# Altium footprint library SFECF10M7.PcbLib: 1 footprints
Each footprint in its own frame and in the unit in brackets; x right, y up, seen from the top. Pads: shape width x height; smd on the part's side, far side on the other; paste and mask are expansions set on the pad; w line width, h text height; cw(c..) or ccw(c..) is an arc to the next point about the centre after c.
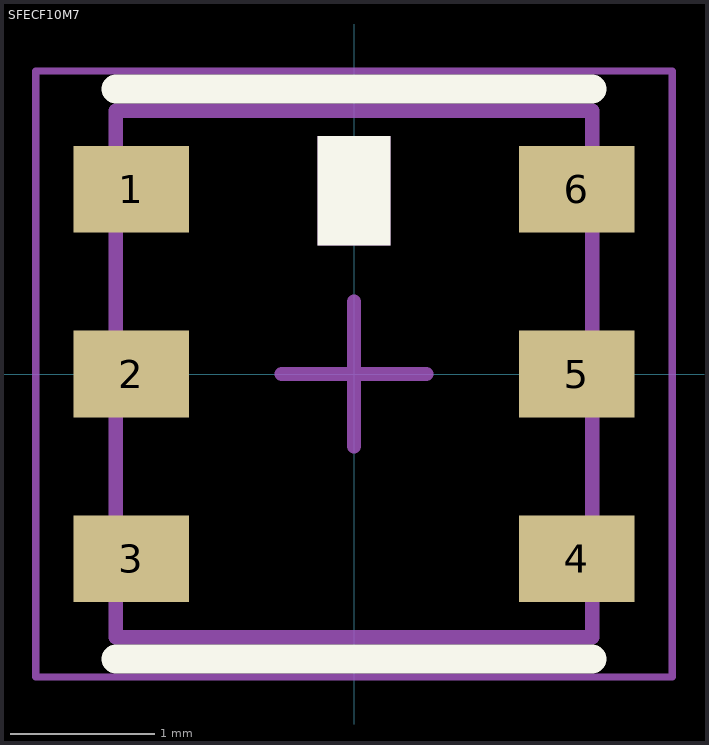
[diagram p0: the footprint, top view; thin cyan lines are the x and y axes]

## SFECF10M7 [mm] "6-Leads, Body 3,45x3,10mm, Pitch 1,28mm, IPC Medium Density"
height 1.4
pads (6):
  rect 0.8x0.6 smd: 1(-1.545,1.28) 2(-1.545,0) 3(-1.545,-1.28) 4(1.545,-1.28) 5(1.545,0) 6(1.545,1.28)
Top Overlay:
  rectangle: -0.254,0.889 0.254,1.651
  lines w0.2: -1.65,-1.975 1.65,-1.975 ; -1.65,1.975 1.65,1.975
Mechanical 13:
  rectangle: -0.254,0.889 0.254,1.651
  lines w0.1: -1.65,-1.825 1.65,-1.825 1.65,1.825 -1.65,1.825 -1.65,-1.825
Mechanical 15:
  lines w0.05: -2.205,-2.1 2.205,-2.1 2.205,2.1 -2.205,2.1 -2.205,-2.1
  lines w0.1: -0.5,0 0.5,0 ; 0,-0.5 0,0.5
Mechanical 17:
  text "'.Designator'" at -0.127,0.889 h0.38
Mechanical 19:
  text "'.Comment'" at -0.127,0.889 h0.38
3D body "User Library-SFECF10M7EA00S0-R0.step": height 1.32, standoff 0, extent -1.57,-1.725 1.57,1.725